# Altium schematic symbol library HW_ADHERENT_SYSCTRL_R1_L2.SCHLIB: 1987 symbols (part 18 of 38)
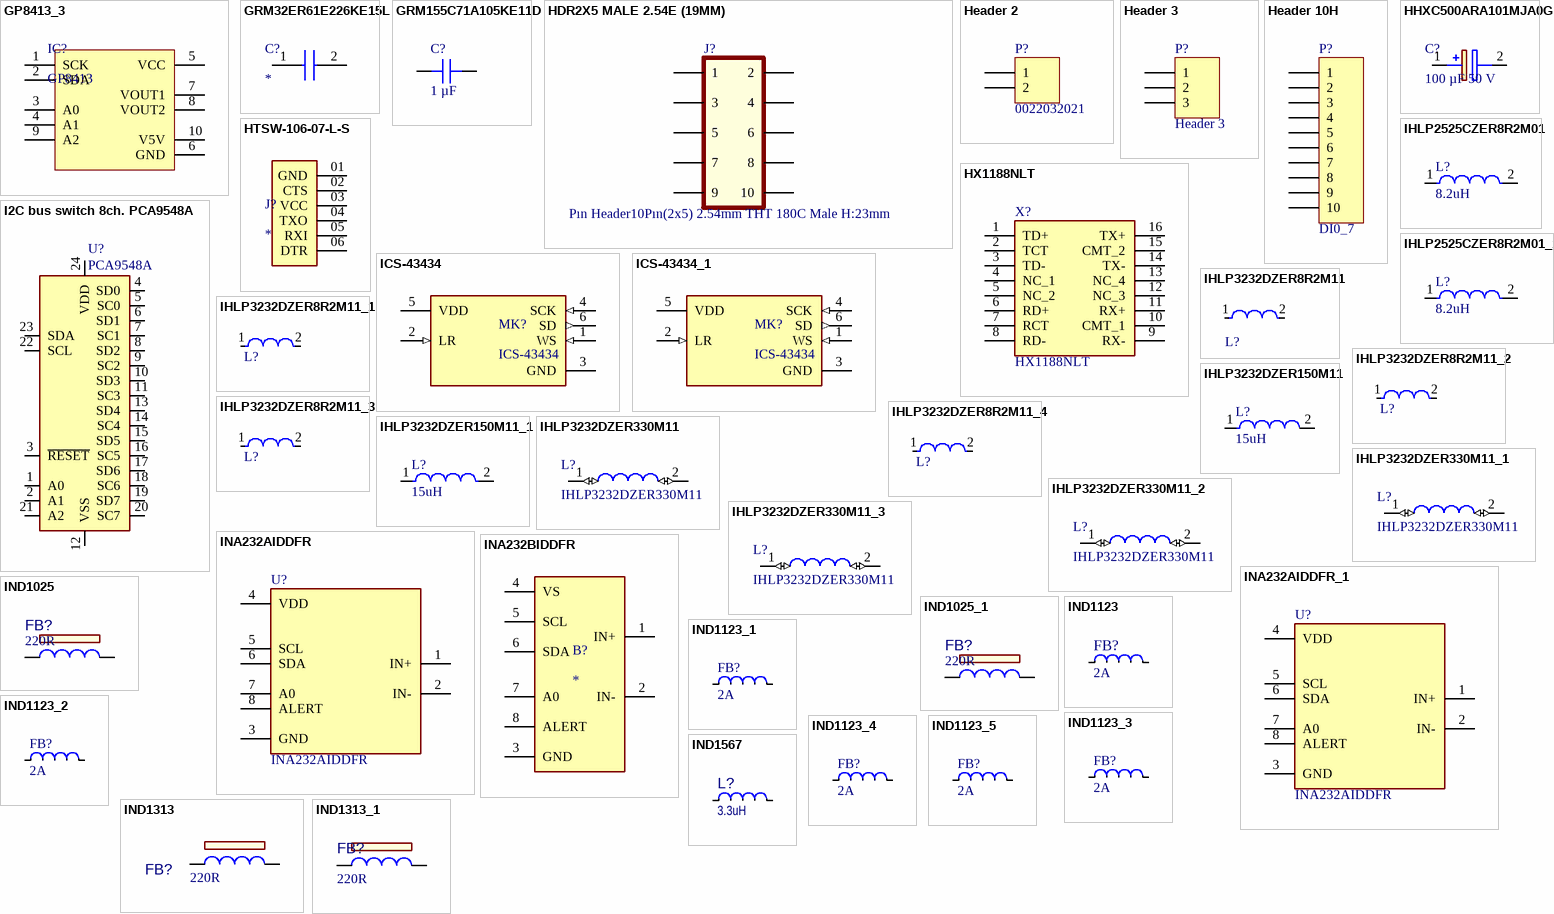
[diagram p79: symbols GP8413_3 to IND1567]

## IND1123_2
designator FB?, comment Current Rating: 2A  (hidden comment: Inductor)
FERRITE BEAD 100 OHM 0603 1LN; Manufacturer: TDK; Manufacturer Part Number: MPZ1608Y101BTA00; Tolerance: 25%; Impedance: 100R; DC Resistance (DCR): 40mR; ComponentLink1URL: https://chn-vm-apps.microchip.com/mchprepo/parts/Datasheets/beads_commercial_power_mpz_en.pdf; ComponentLink1Description: Datasheet; Supplier 1: Digi-Key; Supplier Part Number 1: 445-2984-1-ND; RoHS: Yes; Category: Ferrite Beads and Chips; Stock 1: 551; Pricing 1: 1=0,10000, 10=0,07200, 25=0,06480, 50=0,05840, 100=0,04290, 250=0,03120, 500=0,02860, 1000=0,02470 (USD); Mount: Surface Mount; Case/Package: 0603; Core Material: Ferrite; Case Code (Metric): 1608; Case Code (Imperial): 0603; Packaging: Tape and Reel; Package Quantity: 4000; Max DC Current: 2A; Series: MPZ; Length: 0.063inch; Width: 0.031inch; Height: 0.037inch; REACH SVHC: No SVHC; RoHS Compliant: Yes; ComponentLink2URL: https://datasheet.ciiva.com/46634/beads-commercial-power-mpz-en-46634677.pdf?src-supplier=Digi-Key; ComponentLink2Description: https://datasheet.ciiva.com/46634/beads-commercial-power-mpz-en-46634677.pdf?src-supplier=Digi-Key; ComponentLink3URL: https://datasheet.ciiva.com/48682/beads-commercial-power-mpz-en-48682501.pdf?src-supplier=Avnet; ComponentLink3Description: https://datasheet.ciiva.com/48682/beads-commercial-power-mpz-en-48682501.pdf?src-supplier=Avnet; ComponentLink4URL: https://datasheet.ciiva.com/46634/beads-commercial-power-mpz-en-46634684.pdf?src-supplier=Digi-Key; ComponentLink4Description: https://datasheet.ciiva.com/46634/beads-commercial-power-mpz-en-46634684.pdf?src-supplier=Digi-Key; ComponentLink5URL: https://datasheet.ciiva.com/46634/beads-commercial-power-mpz-en-46634621.pdf?src-supplier=Digi-Key; ComponentLink5Description: https://datasheet.ciiva.com/46634/beads-commercial-power-mpz-en-46634621.pdf?src-supplier=Digi-Key
footprint IND_C_0603 (Chip Inductor 2-Leads, Body 1.6x0.8mm, IPC Medium Density)
pins: 1 S, 2 F
2 alternate drawings of the same symbol

## IND1123_3
designator FB?, comment Current Rating: 2A  (hidden comment: Inductor)
FERRITE BEAD 100 OHM 0603 1LN; Manufacturer: TDK; Manufacturer Part Number: MPZ1608Y101BTA00; Tolerance: 25%; Impedance: 100R; DC Resistance (DCR): 40mR; ComponentLink1URL: https://chn-vm-apps.microchip.com/mchprepo/parts/Datasheets/beads_commercial_power_mpz_en.pdf; ComponentLink1Description: Datasheet; Supplier 1: Digi-Key; Supplier Part Number 1: 445-2984-1-ND; RoHS: Yes; Category: Ferrite Beads and Chips; Stock 1: 551; Pricing 1: 1=0,10000, 10=0,07200, 25=0,06480, 50=0,05840, 100=0,04290, 250=0,03120, 500=0,02860, 1000=0,02470 (USD); Mount: Surface Mount; Case/Package: 0603; Core Material: Ferrite; Case Code (Metric): 1608; Case Code (Imperial): 0603; Packaging: Tape and Reel; Package Quantity: 4000; Max DC Current: 2A; Series: MPZ; Length: 0.063inch; Width: 0.031inch; Height: 0.037inch; REACH SVHC: No SVHC; RoHS Compliant: Yes; ComponentLink2URL: https://datasheet.ciiva.com/46634/beads-commercial-power-mpz-en-46634677.pdf?src-supplier=Digi-Key; ComponentLink2Description: https://datasheet.ciiva.com/46634/beads-commercial-power-mpz-en-46634677.pdf?src-supplier=Digi-Key; ComponentLink3URL: https://datasheet.ciiva.com/48682/beads-commercial-power-mpz-en-48682501.pdf?src-supplier=Avnet; ComponentLink3Description: https://datasheet.ciiva.com/48682/beads-commercial-power-mpz-en-48682501.pdf?src-supplier=Avnet; ComponentLink4URL: https://datasheet.ciiva.com/46634/beads-commercial-power-mpz-en-46634684.pdf?src-supplier=Digi-Key; ComponentLink4Description: https://datasheet.ciiva.com/46634/beads-commercial-power-mpz-en-46634684.pdf?src-supplier=Digi-Key; ComponentLink5URL: https://datasheet.ciiva.com/46634/beads-commercial-power-mpz-en-46634621.pdf?src-supplier=Digi-Key; ComponentLink5Description: https://datasheet.ciiva.com/46634/beads-commercial-power-mpz-en-46634621.pdf?src-supplier=Digi-Key
footprint IND_C_0603 (Chip Inductor 2-Leads, Body 1.6x0.8mm, IPC Medium Density)
pins: 1 S, 2 F
2 alternate drawings of the same symbol

## IND1123_4
designator FB?, comment Current Rating: 2A  (hidden comment: Inductor)
FERRITE BEAD 100 OHM 0603 1LN; Manufacturer: TDK; Manufacturer Part Number: MPZ1608Y101BTA00; Tolerance: 25%; Impedance: 100R; DC Resistance (DCR): 40mR; ComponentLink1URL: https://chn-vm-apps.microchip.com/mchprepo/parts/Datasheets/beads_commercial_power_mpz_en.pdf; ComponentLink1Description: Datasheet; Supplier 1: Digi-Key; Supplier Part Number 1: 445-2984-1-ND; RoHS: Yes; Category: Ferrite Beads and Chips; Stock 1: 551; Pricing 1: 1=0,10000, 10=0,07200, 25=0,06480, 50=0,05840, 100=0,04290, 250=0,03120, 500=0,02860, 1000=0,02470 (USD); Mount: Surface Mount; Case/Package: 0603; Core Material: Ferrite; Case Code (Metric): 1608; Case Code (Imperial): 0603; Packaging: Tape and Reel; Package Quantity: 4000; Max DC Current: 2A; Series: MPZ; Length: 0.063inch; Width: 0.031inch; Height: 0.037inch; REACH SVHC: No SVHC; RoHS Compliant: Yes; ComponentLink2URL: https://datasheet.ciiva.com/46634/beads-commercial-power-mpz-en-46634677.pdf?src-supplier=Digi-Key; ComponentLink2Description: https://datasheet.ciiva.com/46634/beads-commercial-power-mpz-en-46634677.pdf?src-supplier=Digi-Key; ComponentLink3URL: https://datasheet.ciiva.com/48682/beads-commercial-power-mpz-en-48682501.pdf?src-supplier=Avnet; ComponentLink3Description: https://datasheet.ciiva.com/48682/beads-commercial-power-mpz-en-48682501.pdf?src-supplier=Avnet; ComponentLink4URL: https://datasheet.ciiva.com/46634/beads-commercial-power-mpz-en-46634684.pdf?src-supplier=Digi-Key; ComponentLink4Description: https://datasheet.ciiva.com/46634/beads-commercial-power-mpz-en-46634684.pdf?src-supplier=Digi-Key; ComponentLink5URL: https://datasheet.ciiva.com/46634/beads-commercial-power-mpz-en-46634621.pdf?src-supplier=Digi-Key; ComponentLink5Description: https://datasheet.ciiva.com/46634/beads-commercial-power-mpz-en-46634621.pdf?src-supplier=Digi-Key
footprint IND_C_0603 (Chip Inductor 2-Leads, Body 1.6x0.8mm, IPC Medium Density)
pins: 1 S, 2 F
2 alternate drawings of the same symbol

## IND1123_5
designator FB?, comment Current Rating: 2A  (hidden comment: Inductor)
FERRITE BEAD 100 OHM 0603 1LN; Manufacturer: TDK; Manufacturer Part Number: MPZ1608Y101BTA00; Tolerance: 25%; Impedance: 100R; DC Resistance (DCR): 40mR; ComponentLink1URL: https://chn-vm-apps.microchip.com/mchprepo/parts/Datasheets/beads_commercial_power_mpz_en.pdf; ComponentLink1Description: Datasheet; Supplier 1: Digi-Key; Supplier Part Number 1: 445-2984-1-ND; RoHS: Yes; Category: Ferrite Beads and Chips; Stock 1: 551; Pricing 1: 1=0,10000, 10=0,07200, 25=0,06480, 50=0,05840, 100=0,04290, 250=0,03120, 500=0,02860, 1000=0,02470 (USD); Mount: Surface Mount; Case/Package: 0603; Core Material: Ferrite; Case Code (Metric): 1608; Case Code (Imperial): 0603; Packaging: Tape and Reel; Package Quantity: 4000; Max DC Current: 2A; Series: MPZ; Length: 0.063inch; Width: 0.031inch; Height: 0.037inch; REACH SVHC: No SVHC; RoHS Compliant: Yes; ComponentLink2URL: https://datasheet.ciiva.com/46634/beads-commercial-power-mpz-en-46634677.pdf?src-supplier=Digi-Key; ComponentLink2Description: https://datasheet.ciiva.com/46634/beads-commercial-power-mpz-en-46634677.pdf?src-supplier=Digi-Key; ComponentLink3URL: https://datasheet.ciiva.com/48682/beads-commercial-power-mpz-en-48682501.pdf?src-supplier=Avnet; ComponentLink3Description: https://datasheet.ciiva.com/48682/beads-commercial-power-mpz-en-48682501.pdf?src-supplier=Avnet; ComponentLink4URL: https://datasheet.ciiva.com/46634/beads-commercial-power-mpz-en-46634684.pdf?src-supplier=Digi-Key; ComponentLink4Description: https://datasheet.ciiva.com/46634/beads-commercial-power-mpz-en-46634684.pdf?src-supplier=Digi-Key; ComponentLink5URL: https://datasheet.ciiva.com/46634/beads-commercial-power-mpz-en-46634621.pdf?src-supplier=Digi-Key; ComponentLink5Description: https://datasheet.ciiva.com/46634/beads-commercial-power-mpz-en-46634621.pdf?src-supplier=Digi-Key
footprint IND_C_0603 (Chip Inductor 2-Leads, Body 1.6x0.8mm, IPC Medium Density)
pins: 1 S, 2 F
2 alternate drawings of the same symbol

## IND1313
designator FB?, comment value 220R  (hidden comment: Ferrite Bead)
FERRITE BEAD 220 OHM 0603 1LN; Manufacturer: Murata; Manufacturer Part Number: BLM18AG221SN1D; Revision: A; Supplier Part Number: 490-1012-1-ND
footprint 0603_L (R0603)
pins: 1, 2
2 alternate drawings of the same symbol

## IND1313_1
designator FB?, comment value 220R  (hidden comment: Ferrite Bead)
FERRITE BEAD 220 OHM 0603 1LN; Manufacturer: Murata Electronics North America; Manufacturer Part Number: BLM18EG221SN1D; Revision: A; Supplier Part Number: 490-3992-6-ND
footprint 0603_L (R0603)
pins: 1, 2
2 alternate drawings of the same symbol

## IND1567
designator L?, comment 3.3uH
FIXED IND 3.3UH 2.63A 150MOHM SM; Manufacturer: TDK Corporation; Manufacturer Part Number: VLS3012HBX-3R3M; Value: 3.3uH; Revision: A; Supplier Part Number: 445-175070-1-ND
footprint SMD IND 3.0X3.0X1.2MM (VLS3012HBX-3R3M)
pins: 1 S, 2 F
2 alternate drawings of the same symbol

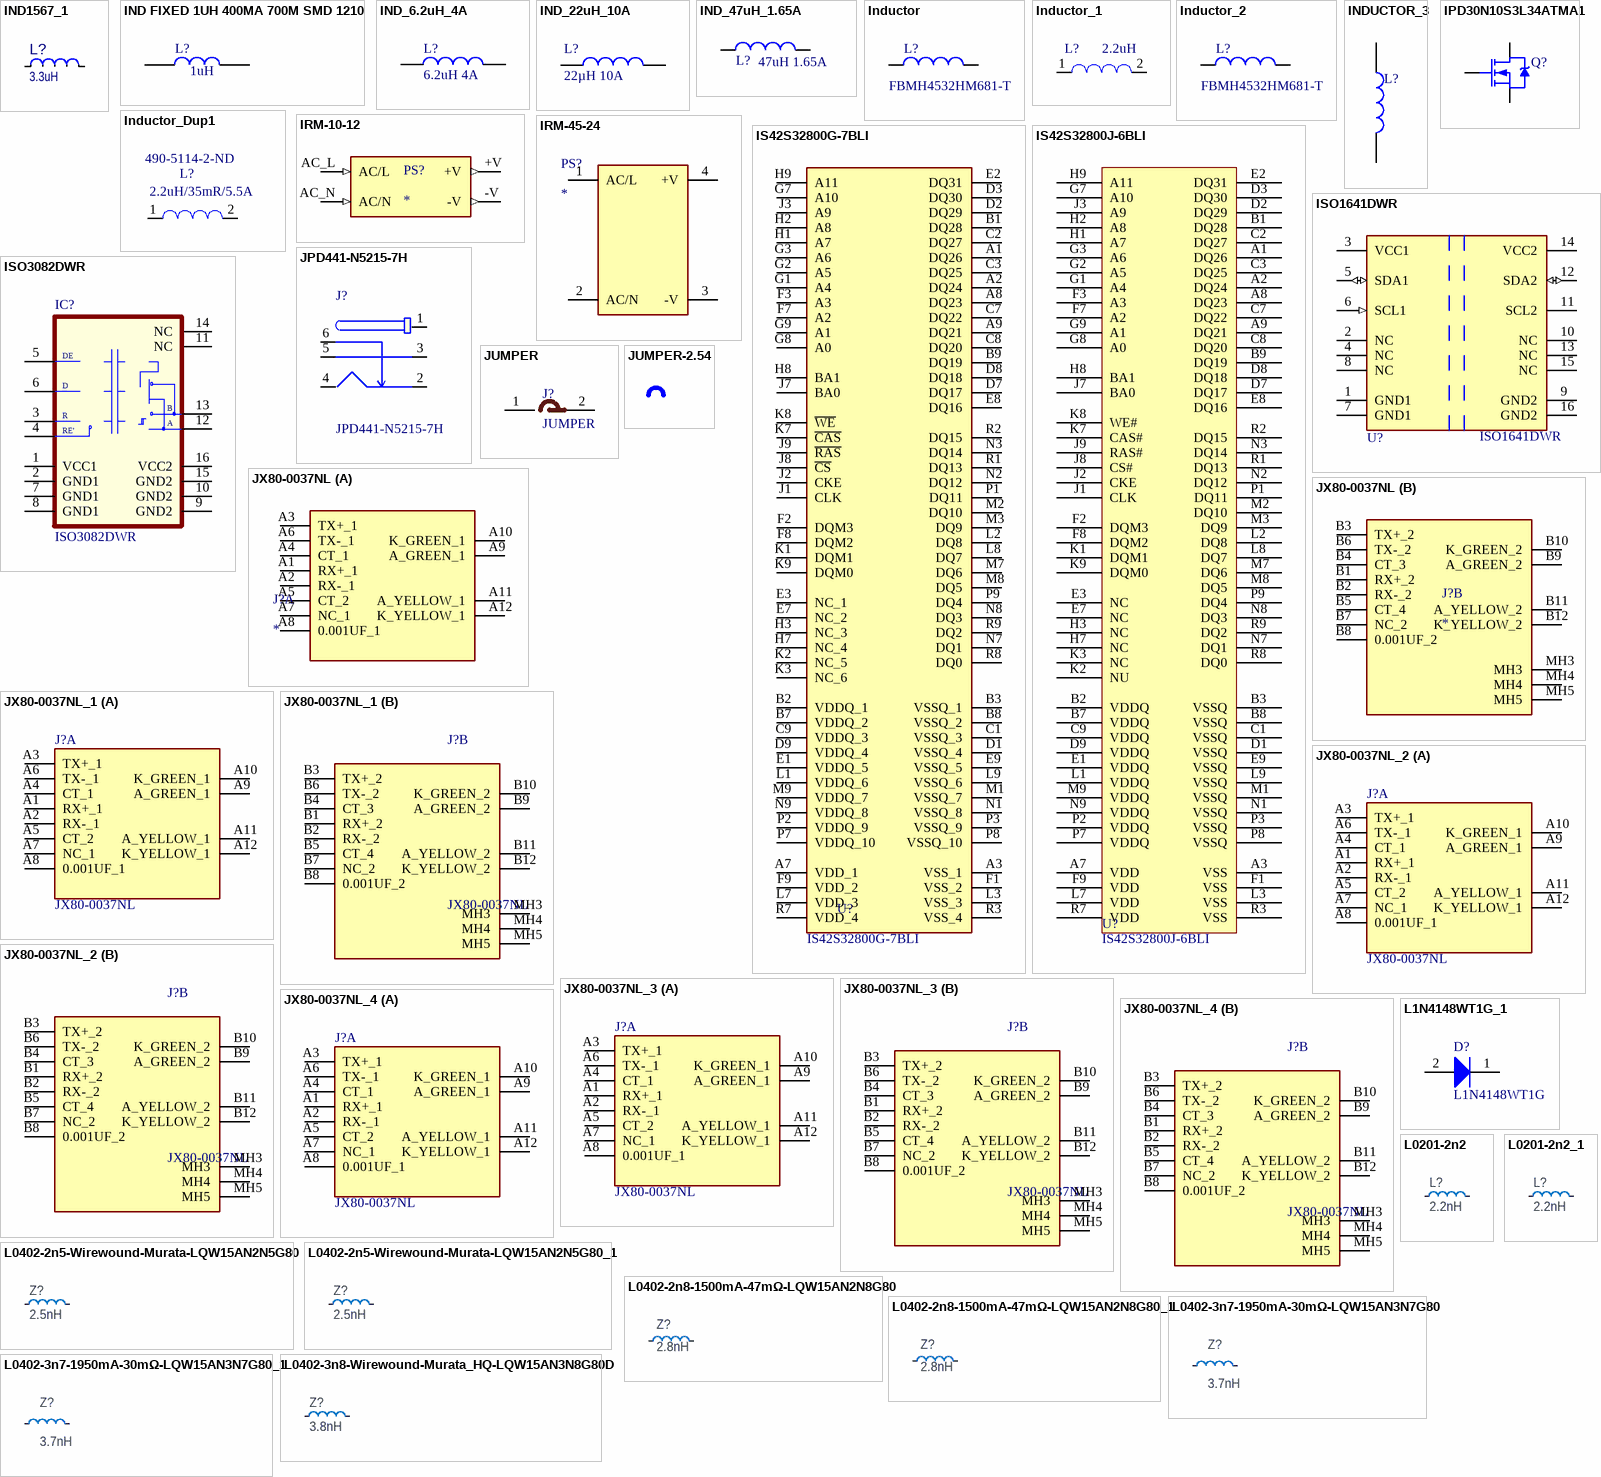
[diagram p31: symbols IND1567_1 to L0402-3n8-Wirewound-Murata_HQ-LQW15AN3N8G80D]

## IND1567_1
designator L?, comment 3.3uH
FIXED IND 3.3UH 2.63A 150MOHM SM; Manufacturer: TDK Corporation; Manufacturer Part Number: VLS3012HBX-3R3M; Value: 3.3uH; Revision: A; Supplier Part Number: 445-175070-1-ND
footprint SMD IND 3.0X3.0X1.2MM (VLS3012HBX-3R3M)
pins: 1 S, 2 F
2 alternate drawings of the same symbol

## IND FIXED 1UH 400MA 700M SMD 1210
designator L?, comment 1uH
SIGNAL LINE IND, 1UH,400MA,5%,120MHz, FULL REEL; Product Range:NLV Series; Inductance:1 H; Inductance Tolerance: 5%; High Frequency Inductor Case:1210 [3225 Metric]; Self Resonant Frequency Min:120MHz; DC Resistance Max:0.7ohm ;RoHS Compliant: Yes; Manufacturer: TDK; Manufacturer Part Number: NLV32T-1R0J-PF; Core Material: Ferrite; DC Resistance (DCR): 700mR; Shielding: Unshielded; Test Frequency: 7.96MHz; Q Factor: 30; Supplier 1: Digi-Key; Supplier Part Number 1: 445-1517-1-ND; RoHS: Yes; Category: Fixed Inductors; Stock 1: 174; Pricing 1: 1=0,25000, 10=0,22600, 25=0,19800, 50=0,16980, 100=0,15560, 250=0,14148, 500=0,13300, 1000=0,10187 (USD); Mount: Surface Mount; Case/Package: 1210; Number of Pins: 2; Case Code (Metric): 3225; Case Code (Imperial): 1210; Min Operating Temperature: -40°C; Max Operating Temperature: 105°C; Tolerance: 5%; Inductance: 1uH; Packaging: Tape and Reel; Self Resonant Frequency: 120MHz; Current Rating: 400mA; Max DC Current: 400mA; Package Quantity: 2000; Termination: SMD/SMT; DC Current: 400mA; Series: NLV; Rated Current-Max: 400mA; Length: 3.2mm; Width: 0.079inch; Height: 2.2mm; Depth: 2.7mm; Radiation Hardening: No; RoHS Compliant: Yes; REACH SVHC: No SVHC; Military Standard: Not; Lead Free: Lead Free; ComponentLink1URL: https://datasheet.ciiva.com/36526/1871633-36526065.pdf?src-supplier=Jameco; ComponentLink1Description: https://datasheet.ciiva.com/36526/1871633-36526065.pdf?src-supplier=Jameco; ComponentLink2URL: https://datasheet.ciiva.com/11802/0900766b80814a78-11802198.pdf?src-supplier=RSComponents; ComponentLink2Description: https://datasheet.ciiva.com/11802/0900766b80814a78-11802198.pdf?src-supplier=RSComponents; ComponentLink3URL: https://datasheet.ciiva.com/15160/getdatasheetpartid-127957-15160442.pdf?src-supplier=Verical; ComponentLink3Description: https://datasheet.ciiva.com/15160/getdatasheetpartid-127957-15160442.pdf?src-supplier=Verical; ComponentLink4URL: https://datasheet.ciiva.com/3082/e511-nl-3082240.pdf?src-supplier=Avnet; ComponentLink4Description: https://datasheet.ciiva.com/3082/e511-nl-3082240.pdf?src-supplier=Avnet; ComponentLink5URL: https://datasheet.ciiva.com/28479/1929012-28479734.pdf?src-supplier=Element14; ComponentLink5Description: https://datasheet.ciiva.com/28479/1929012-28479734.pdf?src-supplier=Element14; ComponentLink6URL: https://datasheet.ciiva.com/1042/e511-nl-1042327.pdf?src-supplier=Digi-Key; ComponentLink6Description: https://datasheet.ciiva.com/1042/e511-nl-1042327.pdf?src-supplier=Digi-Key; ComponentLink7URL: https://datasheet.ciiva.com/1042/e511-nl-1042328.pdf?src-supplier=Digi-Key; ComponentLink7Description: https://datasheet.ciiva.com/1042/e511-nl-1042328.pdf?src-supplier=Digi-Key; ComponentLink8URL: https://datasheet.ciiva.com/1042/e511-nl-1042329.pdf?src-supplier=Digi-Key; ComponentLink8Description: https://datasheet.ciiva.com/1042/e511-nl-1042329.pdf?src-supplier=Digi-Key; ComponentLink9URL: https://datasheet.ciiva.com/16209/inductor-commercial-standard-nlv-en-16209578.pdf?src-supplier=Future+Electronics; ComponentLink9Description: https://datasheet.ciiva.com/16209/inductor-commercial-standard-nlv-en-16209578.pdf?src-supplier=Future+Electronics; ComponentLink10URL: https://datasheet.ciiva.com/30155/print-detail-pdf-phplangenpart-nonlv32t-1r0j-pfnreimp-unit-xmhzim-30155739.pdf?src-supplier=Onlinecomponents.com; ComponentLink10Description: https://datasheet.ciiva.com/30155/print-detail-pdf-phplangenpart-nonlv32t-1r0j-pfnreimp-unit-xmhzim-30155739.pdf?src-supplier=Onlinecomponents.com; ComponentLink11URL: https://datasheet.ciiva.com/46385/e511-nl-46385197.pdf?src-supplier=Element14; ComponentLink11Description: https://datasheet.ciiva.com/46385/e511-nl-46385197.pdf?src-supplier=Element14; ComponentLink12URL: https://datasheet.ciiva.com/8045/73621-8045615.pdf?src-supplier=Element14; ComponentLink12Description: https://datasheet.ciiva.com/8045/73621-8045615.pdf?src-supplier=Element14
footprint F1210N (Chip Inductor, Body 3.2x2.5mm, IPC Medium Density)
pins: 1, 2

## IND_6.2uH_4A
designator L?, comment 6.2uH 4A
6.2 µH Shielded Drum Core, Wirewound Inductor 4 A 16.5mOhm Nonstandard; Manufacturer_Name: Bourns; Manufacturer Part Number: SRU1038-6R2Y; Geometry.Height: 6.1mm; Mouser Part Number: 652-SRU1038-6R2Y; Mouser Price/Stock: https://www.mouser.co.uk/ProductDetail/Bourns/SRU1038-6R2Y?qs=q9ZR8LvBB%2FuBaClm0822pQ%3D%3D; Arrow Part Number: SRU1038-6R2Y; Arrow Price/Stock: https://www.arrow.com/en/products/sru1038-6r2y/bourns; Datasheet Link: https://www.mouser.com/datasheet/2/54/sru1038-1391493.pdf
footprint SRU10386R2Y
pins: 1, 2

## IND_22uH_10A
designator L?, comment 22µH 10A
WE-HIDA THT High Current Inductor, size 3119, 22µH, 10A; Manufacturer: Wurth Elektronik; Manufacturer Part Number: 7444013119220; Inductance Tolerance: +/-20%; Self Resonant Frequency: 9MHz; Saturation Current: 33A; Case/Size Code: 3119; DC Resistance: 5.3mΩ; Category: Inductors for Digital Audio; Mount: Through Hole; Inductance: 22µH; Packaging: Tray; Length: 31mm; Width: 19mm; Height: 35mm; ComponentLink1URL: https://www.we-online.com/redexpert/article/7444013119220?ad; ComponentLink1Description: Website Link; ComponentLink2URL: https://www.we-online.com/redexpert/spec/7444013119220?ad; ComponentLink2Description: Datasheet Link; Match Code: WE-HIDA; Operating Temperature Max: 125°C; Operating Temperature Min: -40°C; Rated Current: 10A
footprint WE-HIDA_3119_7444013119220 (THT High Current Inductor, body 31x19mm)
pins: 1, 2

## IND_47uH_1.65A
designator L?, comment Rated: 47uH 1.65A  (hidden comment: FIXED IND 47UH 1.65A 121MOHM SMD)
47 µH Shielded Drum Core, Wirewound Inductor 1.65 A 121mOhm Nonstandard; Manufacturer Part Number: SRU1038-470Y
footprint Bourns_SRU1038_MFG
pins: 1, 2

## Inductor
designator L?, comment FBMH4532HM681-T
FERRITE BEAD 680 OHM 1812 1LN; Manufacturer: Taiyo Yuden; Value: FBMH4532HM681-T; Manufacturer Part Number: FBMH4532HM681-T; Supplier Part Number: 587-1761-1-ND
simulation model INDUCTOR (Inductor)
signal-integrity model Inductor
footprint FB_FBMH4532HM681-T (FBMH4532HM681-T)
pins: 1, 2

## Inductor_1
designator L?, comment 2.2uH
Power Inductor,2.2uH,+/-20,SPH,3.0*3.0*1.2mm,SMD,Sunlord; Manufacturer P/N: SPH3012H2R2MT; PCB Footprint: L3X3; Myir P/N: 20501.00034; Part Type: Power Inductor; Manufacturer: Sunlord; Reserve Value: 2.2uH; Datasheet: SPH series of SMD Power Inductor.pdf
footprint VLCF5020T
footprint L3X3
pins: 1, 2

## Inductor_2
designator L?, comment FBMH4532HM681-T
FERRITE BEAD 680 OHM 1812 1LN; Manufacturer: Taiyo Yuden; Value: FBMH4532HM681-T; Manufacturer Part Number: FBMH4532HM681-T; Supplier Part Number: 587-1761-1-ND
simulation model INDUCTOR (Inductor)
signal-integrity model Inductor
footprint FB_FBMH4532HM681-T (FBMH4532HM681-T)
pins: 1, 2

## INDUCTOR_3
designator L?
footprint ISENSOR_1
pins: 1, 2

## Inductor_Dup1
designator L?, comment 2.2uH/35mR/5.5A  Supplier Part Number 1: 490-5114-2-ND
Inductor Power Chip Shielded Multi-Layer 2.2uH 20% 1MHz Ferrite 1.3A 100mOhm DCR 1008 T/R; RP1 Manufacturer P/N: MWSA0503S-2R2MT; Manufacturer P/N: MPH0530-2R2M; Manufacturer: Vcoil; Manufacturer Part Number: LQM2HPN2R2MG0L; RP1 Myir P/N: 20501.00040; Myir P/N: 20501.00020; PCB Footprint: l5_2x5_5; Self Resonant Frequency: 40MHz; DC Resistance (DCR): 80mR; Series Resistance: 100mR; Voltage Rating: 50V; Datasheet: MPH-Inductor.pdf; Reserve Value: 2.2uH; Part Type: Power Inductor; Supplier 1: Digikey; RoHS: Yes; Category: Fixed Inductors; Stock 1: 123000; Pricing 1: 3000=0.08405, 6000=0.08142, 15000=0.07879, 30000=0.07617, 75000=0.07354 (USD); Mount: Surface Mount; Case/Package: 1008; Number of Pins: 2NUMBER; Core Material: Ferrite; Case Code (Metric): 2520; Case Code (Imperial): 1008; Min Operating Temperature: -55°C; Max Operating Temperature: 125°C; Packaging: Tape and Reel; Shielding: Shielded; Tolerance: 20%; Package Quantity: 1; Current Rating: 1.3A; Inductance: 2.2uH; Max DC Current: 1.3A; Termination: SMD/SMT; Test Frequency: 1MHz; DC Current: 1.3A; Inductance Tolerance: 20%; Series: LQM2HP_G0; RMS Current (Irms): 1.3A; Voltage Rating (DC): 50V; Length: 2.5mm; Width: 0.079inch; Height: 1.2mm; Height - Seated (Max): 0.039inch; Depth: 2.2mm; Lead Pitch: 5mm; Radiation Hardening: No; Military Standard: Not; Reach SVHC Compliant: No; RoHS Compliant: Yes; Lead Free: 5697LeadFree; ComponentLink1URL: https://datasheet.ciiva.com/30490/0900766b812561d9-30490188.pdf?src-supplier=Rs; ComponentLink1Description: https://datasheet.ciiva.com/30490/0900766b812561d9-30490188.pdf?src-supplier=Rs; ComponentLink2URL: https://datasheet.ciiva.com/18089/getdatasheetpartid-153082-18089633.pdf?src-supplier=Verical; ComponentLink2Description: https://datasheet.ciiva.com/18089/getdatasheetpartid-153082-18089633.pdf?src-supplier=Verical; ComponentLink3URL: https://datasheet.ciiva.com/1042/l0075s0104lqm2hp-g0-1042920.pdf?src-supplier=Digikey; ComponentLink3Description: https://datasheet.ciiva.com/1042/l0075s0104lqm2hp-g0-1042920.pdf?src-supplier=Digikey; ComponentLink4URL: https://datasheet.ciiva.com/1042/l0075s0104lqm2hp-g0-1042919.pdf?src-supplier=Digikey; ComponentLink4Description: https://datasheet.ciiva.com/1042/l0075s0104lqm2hp-g0-1042919.pdf?src-supplier=Digikey; ComponentLink5URL: https://datasheet.ciiva.com/1042/l0075s0104lqm2hp-g0-1042921.pdf?src-supplier=Digikey; ComponentLink5Description: https://datasheet.ciiva.com/1042/l0075s0104lqm2hp-g0-1042921.pdf?src-supplier=Digikey; ComponentLink6URL: https://datasheet.ciiva.com/4959/product-4959558.pdf?src-supplier=Mouser; ComponentLink6Description: https://datasheet.ciiva.com/4959/product-4959558.pdf?src-supplier=Mouser; ComponentLink7URL: https://datasheet.ciiva.com/8510/l0075s0104lqm2hp-g0-8510494.pdf?src-supplier=Avnet; ComponentLink7Description: https://datasheet.ciiva.com/8510/l0075s0104lqm2hp-g0-8510494.pdf?src-supplier=Avnet
footprint VLCF5020T
footprint l5_2x5_5
pins: 1, 2

## IPD30N10S3L34ATMA1
designator Q?, comment MOSFET N-CH 100V 30A TO252-3  (value not drawn)
N-Channel 100 V 30A (Tc) 57W (Tc) Surface Mount PG-TO252-3-11; Manufacturer Part Number: IPD30N10S3L34ATMA1; Value: N-Channel 100 V 30A (Tc) 57W (Tc) Surface Mount PG-TO252-3-11
footprint TO-252_L6.5-W6.1-P4.58-LS9.9-BR
pins: 1 G, 2 D, 3 S

## IRM-10-12
designator PS?
Power Supply,AC-DC,12V,0.85A,100-264V In,Encapsulated,Thru-Hole,IRM Series | MEAN WELL IRM-10-12; SnapEDA_Link: https://www.snapeda.com/parts/IRM-10-12/Mean+Well/view-part/?ref=snap; Package: None; Value: *; MF: MEAN WELL; MP: IRM-10-12; Check_prices: https://www.snapeda.com/parts/IRM-10-12/Mean+Well/view-part/?ref=eda
footprint CONV_IRM-10-12
pins: +V (out), -V (out), AC_L AC/L (in), AC_N AC/N (in)

## IRM-45-24
designator PS?
Power Supply; Manufacturer_Name: Mean Well; Manufacturer_Part_Number: IRM-45-24; Datasheet Link: http://www.meanwell.com/webapp/product/search.aspx?prod=IRM-45; Mouser Part Number: 709-IRM45-24; Mouser Price/Stock: https://www.mouser.co.uk/ProductDetail/MEAN-WELL/IRM-45-24?qs=yID0DEbBT%252BnXaXs%252BF7qwwg%3D%3D; Arrow Part Number: IRM-45-24; Arrow Price/Stock: https://www.arrow.com/en/products/irm-45-24/mean-well-enterprises?region=europe
footprint IRM-45-48
pins: 1 AC/L, 2 AC/N, 3 -V, 4 +V

## IS42S32800G-7BLI
designator U?, comment Manufacturer Part Number: IS42S32800G-7BLI  (hidden comment: IC DRAM 256MBIT PAR 90TFBGA)
SDRAM Memory IC 256Mbit Parallel 143 MHz 5.4 ns 90-TFBGA (8x13); Manufacturer Name: Integrated Silicon Solution Inc.; Order Code: Mouser: 870-IS42S32800G-7BLI; Datasheet Link: https://componentsearchengine.com/Datasheets/1/IS42S32800G-6BLI.pdf; Height: 1.2mm
footprint TFBGA-90
pins: A1 DQ26, A2 DQ24, A3 VSS_1, A7 VDD_1, A8 DQ23, A9 DQ21, B1 DQ28, B2 VDDQ_1, B3 VSSQ_1, B7 VDDQ_2, B8 VSSQ_2, B9 DQ19, C1 VSSQ_3, C2 DQ27, C3 DQ25, C7 DQ22, C8 DQ20, C9 VDDQ_3, D1 VSSQ_4, D2 DQ29, D3 DQ30, D7 DQ17, D8 DQ18, D9 VDDQ_4, E1 VDDQ_5, E2 DQ31, E3 NC_1, E7 NC_2, E8 DQ16, E9 VSSQ_5, F1 VSS_2, F2 DQM3, F3 A3, F7 A2, F8 DQM2, F9 VDD_2, G1 A4, G2 A5, G3 A6, G7 A10, G8 A0, G9 A1, H1 A7, H2 A8, H3 NC_3, H7 NC_4, H8 BA1, H9 A11, J1 CLK, J2 CKE, J3 A9, J7 BA0, J8 ~{CS}, J9 ~{RAS}, K1 DQM1, K2 NC_5, K3 NC_6, K7 ~{CAS}, K8 ~{WE}, K9 DQM0, L1 VDDQ_6, L2 DQ8, L3 VSS_3, L7 VDD_3, L8 DQ7, L9 VSSQ_6, M1 VSSQ_7, M2 DQ10, M3 DQ9, M7 DQ6, M8 DQ5, M9 VDDQ_7, N1 VSSQ_8, N2 DQ12, N3 DQ14, N7 DQ1, N8 DQ3, N9 VDDQ_8, P1 DQ11, P2 VDDQ_9, P3 VSSQ_9, P7 VDDQ_10, P8 VSSQ_10, P9 DQ4, R1 DQ13, R2 DQ15, R3 VSS_4, R7 VDD_4, R8 DQ0, R9 DQ2

## IS42S32800J-6BLI
designator U?
SDRAM Memory IC 256Mbit Parallel 166 MHz 5.4 ns 90-TFBGA (8x13); Order Code: DIGI: 706-1451-ND; Manufacturer Part Number: IS42S32800J-6BLI
footprint TFBGA-90
pins: A1 DQ26, A2 DQ24, A3 VSS, A7 VDD, A8 DQ23, A9 DQ21, B1 DQ28, B2 VDDQ, B3 VSSQ, B7 VDDQ, B8 VSSQ, B9 DQ19, C1 VSSQ, C2 DQ27, C3 DQ25, C7 DQ22, C8 DQ20, C9 VDDQ, D1 VSSQ, D2 DQ29, D3 DQ30, D7 DQ17, D8 DQ18, D9 VDDQ, E1 VDDQ, E2 DQ31, E3 NC, E7 NC, E8 DQ16, E9 VSSQ, F1 VSS, F2 DQM3, F3 A3, F7 A2, F8 DQM2, F9 VDD, G1 A4, G2 A5, G3 A6, G7 A10, G8 A0, G9 A1, H1 A7, H2 A8, H3 NC, H7 NC, H8 BA1, H9 A11, J1 CLK, J2 CKE, J3 A9, J7 BA0, J8 CS#, J9 RAS#, K1 DQM1, K2 NU, K3 NC, K7 CAS#, K8 WE#, K9 DQM0, L1 VDDQ, L2 DQ8, L3 VSS, L7 VDD, L8 DQ7, L9 VSSQ, M1 VSSQ, M2 DQ10, M3 DQ9, M7 DQ6, M8 DQ5, M9 VDDQ, N1 VSSQ, N2 DQ12, N3 DQ14, N7 DQ1, N8 DQ3, N9 VDDQ, P1 DQ11, P2 VDDQ, P3 VSSQ, P7 VDDQ, P8 VSSQ, P9 DQ4, R1 DQ13, R2 DQ15, R3 VSS, R7 VDD, R8 DQ0, R9 DQ2

## ISO1641DWR
designator U?
I²C Digital Isolator 5000Vrms 2 Channel 50kV/µs CMTI 16-SOIC (0.295", 7.50mm Width); Manufacturer: Texas Instruments; Manufacturer Part Number: ISO1641DWR
footprint Texas_Instruments_DW0016A_IPC_B
pins: 1 GND1 (power), 2 NC, 3 VCC1 (power), 4 NC, 5 SDA1 (io), 6 SCL1 (in), 7 GND1 (power), 8 NC, 9 GND2 (power), 10 NC, 11 SCL2, 12 SDA2 (io), 13 NC, 14 VCC2 (power), 15 NC, 16 GND2 (power)

## ISO3082DWR
designator IC?
IC TXRX ISO ISO3082DWR RS422/485 2.5KV 3CH 200KBPS 16SOIC; Manufacturer: TEXAS; Code: 3000004; Family: IC; Manufacturer Part Name: ISO3082DWR; Supplier: Digikey; Supplier No: 296-37891-6-ND; Package Reference: 16-SOIC; Value: ISO3082DWR
footprint SOIC127P1030-16N (SOIC, 16-Leads, Body 10.3x7.5mm, Pitch 1.27mm, IPC Medium Density)
footprint Model Name (Footprint not found)
pins: 1 VCC1 (power), 2 GND1 (power), 3 R, 4 ~{RE}, 5 DE, 6 D, 7 GND1 (power), 8 GND1 (power), 9 GND2 (power), 10 GND2 (power), 11 NC, 12 A, 13 B, 14 NC, 15 GND2 (power), 16 VCC2 (power)
text: RE'

## JPD441-N5215-7H
designator J?
Connector,DC Jack,Male,Right angle,7A &30¡ãC,Foxconn; Myir P/N: 21115.00002; PCB Footprint: JPD441-N5215-7H; Part Type: DC Connector; Manufacturer: Foxconn; Manufacturer P/N: JPD441-N5215-7H; Reserve Value: JPD441-N5215-7H; Datasheet: DC_JACK_Foxconn_JPD441-N5215-7H.pdf
footprint JPD441-N5215-7H
pins: 1, 2, 3, 4, 5, 6

## JUMPER
designator J?
footprint SB-tiny
pins: 1, 2

## JUMPER-2.54
designator Z?, comment Jumper Pitch 2.54  (value not drawn)
Jumper,2 Points Jumper Pitch 2.54; Manufacturer Part Number: G4160-1A60BF1U; Manufacturer: WIESON; Part Number: 440-00002-1; FAB: NA; REF: JUMPER 2.54; PCB Footprint: JUMPER-2.54; DESIG: 2 POINTS JUMPER PITCH 2.54; VAL: JUMPER 2.54; BOI: NA; Part Type: Jumper
footprint JUMPER-2.54

## JX80-0037NL
designator J?
Connector; Manufacturer_Name: Pulse Electronics; Manufacturer_Part_Number: JX80-0037NL; Datasheet Link: https://componentsearchengine.com/Datasheets/1/JX80-0037NL.pdf; Height: 13.61mm; Mouser Part Number: 673-JX80-0037NL; Mouser Price/Stock: https://www.mouser.co.uk/ProductDetail/Pulse-Electronics/JX80-0037NL?qs=FESYatJ8odIT4jQ9naiDGw%3D%3D
footprint JX800037NL
part A pins: A1 RX+_1, A2 RX-_1, A3 TX+_1, A4 CT_1, A5 CT_2, A6 TX-_1, A7 NC_1, A8 0.001UF_1, A9 A_GREEN_1, A10 K_GREEN_1, A11 A_YELLOW_1, A12 K_YELLOW_1
part B pins: B1 RX+_2, B2 RX-_2, B3 TX+_2, B4 CT_3, B5 CT_4, B6 TX-_2, B7 NC_2, B8 0.001UF_2, B9 A_GREEN_2, B10 K_GREEN_2, B11 A_YELLOW_2, B12 K_YELLOW_2, MH3, MH4, MH5

## JX80-0037NL_1
designator J?, comment JX80-0037NL
Connector; Manufacturer_Name: Pulse Electronics; Datasheet Link: https://componentsearchengine.com/Datasheets/1/JX80-0037NL.pdf; Height: 13.61mm; Manufacturer_Part_Number: JX80-0037NL; Mouser Part Number: 673-JX80-0037NL; Mouser Price/Stock: https://www.mouser.co.uk/ProductDetail/Pulse-Electronics/JX80-0037NL?qs=FESYatJ8odIT4jQ9naiDGw%3D%3D
footprint JX800037NL
part A pins: A1 RX+_1, A2 RX-_1, A3 TX+_1, A4 CT_1, A5 CT_2, A6 TX-_1, A7 NC_1, A8 0.001UF_1, A9 A_GREEN_1, A10 K_GREEN_1, A11 A_YELLOW_1, A12 K_YELLOW_1
part B pins: B1 RX+_2, B2 RX-_2, B3 TX+_2, B4 CT_3, B5 CT_4, B6 TX-_2, B7 NC_2, B8 0.001UF_2, B9 A_GREEN_2, B10 K_GREEN_2, B11 A_YELLOW_2, B12 K_YELLOW_2, MH3, MH4, MH5

## JX80-0037NL_2
designator J?, comment JX80-0037NL
Connector; Manufacturer_Name: Pulse Electronics; Datasheet Link: https://componentsearchengine.com/Datasheets/1/JX80-0037NL.pdf; Height: 13.61mm; Manufacturer_Part_Number: JX80-0037NL; Mouser Part Number: 673-JX80-0037NL; Mouser Price/Stock: https://www.mouser.co.uk/ProductDetail/Pulse-Electronics/JX80-0037NL?qs=FESYatJ8odIT4jQ9naiDGw%3D%3D
footprint JX800037NL
part A pins: A1 RX+_1, A2 RX-_1, A3 TX+_1, A4 CT_1, A5 CT_2, A6 TX-_1, A7 NC_1, A8 0.001UF_1, A9 A_GREEN_1, A10 K_GREEN_1, A11 A_YELLOW_1, A12 K_YELLOW_1
part B pins: B1 RX+_2, B2 RX-_2, B3 TX+_2, B4 CT_3, B5 CT_4, B6 TX-_2, B7 NC_2, B8 0.001UF_2, B9 A_GREEN_2, B10 K_GREEN_2, B11 A_YELLOW_2, B12 K_YELLOW_2, MH3, MH4, MH5

## JX80-0037NL_3
designator J?, comment JX80-0037NL
Connector; Manufacturer_Name: Pulse Electronics; Datasheet Link: https://componentsearchengine.com/Datasheets/1/JX80-0037NL.pdf; Height: 13.61mm; Manufacturer_Part_Number: JX80-0037NL; Mouser Part Number: 673-JX80-0037NL; Mouser Price/Stock: https://www.mouser.co.uk/ProductDetail/Pulse-Electronics/JX80-0037NL?qs=FESYatJ8odIT4jQ9naiDGw%3D%3D
footprint JX800037NL
part A pins: A1 RX+_1, A2 RX-_1, A3 TX+_1, A4 CT_1, A5 CT_2, A6 TX-_1, A7 NC_1, A8 0.001UF_1, A9 A_GREEN_1, A10 K_GREEN_1, A11 A_YELLOW_1, A12 K_YELLOW_1
part B pins: B1 RX+_2, B2 RX-_2, B3 TX+_2, B4 CT_3, B5 CT_4, B6 TX-_2, B7 NC_2, B8 0.001UF_2, B9 A_GREEN_2, B10 K_GREEN_2, B11 A_YELLOW_2, B12 K_YELLOW_2, MH3, MH4, MH5

## JX80-0037NL_4
designator J?, comment JX80-0037NL
Connector; Manufacturer_Name: Pulse Electronics; Datasheet Link: https://componentsearchengine.com/Datasheets/1/JX80-0037NL.pdf; Height: 13.61mm; Manufacturer_Part_Number: JX80-0037NL; Mouser Part Number: 673-JX80-0037NL; Mouser Price/Stock: https://www.mouser.co.uk/ProductDetail/Pulse-Electronics/JX80-0037NL?qs=FESYatJ8odIT4jQ9naiDGw%3D%3D
footprint JX800037NL
part A pins: A1 RX+_1, A2 RX-_1, A3 TX+_1, A4 CT_1, A5 CT_2, A6 TX-_1, A7 NC_1, A8 0.001UF_1, A9 A_GREEN_1, A10 K_GREEN_1, A11 A_YELLOW_1, A12 K_YELLOW_1
part B pins: B1 RX+_2, B2 RX-_2, B3 TX+_2, B4 CT_3, B5 CT_4, B6 TX-_2, B7 NC_2, B8 0.001UF_2, B9 A_GREEN_2, B10 K_GREEN_2, B11 A_YELLOW_2, B12 K_YELLOW_2, MH3, MH4, MH5

## L1N4148WT1G_1
designator D?, comment Manufacturer Part Number: L1N4148WT1G  (hidden comment: 100V 425mW Single 1.25V 4ns 200mA SOD-123 Switching Diode ROHS)
Order Code: LCSC: C78089; LCSC Manufacturer Part Number: L1N4148WT1G; LCSC Part Number: C78089
footprint SOD-123_L2.8-W1.8-LS3.7-RD
pins: 1 K, 2 A

## L0201-2n2
designator L?, comment 2.2nH
Chip Inductor; Part Number: L0201-2n2; Part number NEMS: 100300017; Pad Count: 2; Artikkelnr Noca: N.A.; Note: High frequency chip inductor ±5%; Component Status: Active; Footprint Doc: 0201; Value: 2.2nH; Component Class: Inductors; Author: rsk; ComponentLink1Description: Datasheet; ComponentLink1URL: N.A.; ComponentLink2Description: Supplier link; ComponentLink2URL: N.A.; HelpURL: N.A.; LatestRevisionDate: 2013-04-10; Manufacturer: N.A.; Manufacturer Part Number: N.A.; PartId: 100300017; Part number IPS: N.A.; Part number Norautron: N.A.; Published: 2013-04-10; Supplier 1: N.A.; Supplier 2: N.A.; Supplier Part Number 1: N.A.; Supplier Part Number 2: N.A.
footprint INDC0603X03L_C
pins: 1, 2

## L0201-2n2_1
designator L?, comment 2.2nH
Chip Inductor; Part Number: L0201-2n2; Part number NEMS: 100300017; Pad Count: 2; Artikkelnr Noca: N.A.; Note: High frequency chip inductor ±5%; Component Status: Active; Footprint Doc: 0201; Value: 2.2nH; Component Class: Inductors; Author: rsk; ComponentLink1Description: Datasheet; ComponentLink1URL: N.A.; ComponentLink2Description: Supplier link; ComponentLink2URL: N.A.; HelpURL: N.A.; LatestRevisionDate: 2013-04-10; Manufacturer: N.A.; Manufacturer Part Number: N.A.; PartId: 100300017; Part number IPS: N.A.; Part number Norautron: N.A.; Published: 2013-04-10; Supplier 1: N.A.; Supplier 2: N.A.; Supplier Part Number 1: N.A.; Supplier Part Number 2: N.A.
footprint INDC0603X03L_C
pins: 1, 2

## L0402-2n5-Wirewound-Murata-LQW15AN2N5G80
designator Z?, comment 2.5nH
Inductor, 2100mA, ±2%, 30mΩ, Q=30; Part Number: L0402-2n5-Wirewound-Murata-LQW15AN2N5G80; Manufacturer: Murata; Manufacturer Part Number: LQW15AN2N5G80D; Part number NEMS: 100300417; Pad Count: 2; Note: -55°C ~ 125°C; Artikkelnr Noca: N.A.; Component Status: Active; Component Class: Inductors; Author: masi; ComponentLink1URL: https://www.murata.com/products/productdetail?partno=LQW15AN2N5G80%23; ComponentLink1Description: Datasheet; ComponentLink2URL: N.A.; ComponentLink2Description: Supplier link; HelpURL: https://search.murata.co.jp/Ceramy/image/img/P02/JELF243A-0100.pdf; Footprint Doc: 0402; LatestRevisionDate: 2022-08-18; Published: 2022-08-18; Value: 2.5nH; Supplier 1: Digi-Key; Supplier Part Number 1: LQW15AN2N5G80D-ND; Supplier 2: Mouser; Supplier Part Number 2: 81-LQW15AN2N5G80D; Part number IPS: N.A.; Part number Norautron: N.A.; PartId: 100300417
footprint INDC1005X04L_WW
footprint C1608X06L-C1005X04M (Chip Capacitor, 2-Leads, Body 1.6x0.8mm, IPC High Density)
pins: 1, 2

## L0402-2n5-Wirewound-Murata-LQW15AN2N5G80_1
designator Z?, comment 2.5nH
Inductor, 2100mA, ±2%, 30mΩ, Q=30; Part Number: L0402-2n5-Wirewound-Murata-LQW15AN2N5G80; Manufacturer: Murata; Manufacturer Part Number: LQW15AN2N5G80D; Part number NEMS: 100300417; Pad Count: 2; Note: -55°C ~ 125°C; Artikkelnr Noca: N.A.; Component Status: Active; Component Class: Inductors; Author: masi; ComponentLink1URL: https://www.murata.com/products/productdetail?partno=LQW15AN2N5G80%23; ComponentLink1Description: Datasheet; ComponentLink2URL: N.A.; ComponentLink2Description: Supplier link; HelpURL: https://search.murata.co.jp/Ceramy/image/img/P02/JELF243A-0100.pdf; Footprint Doc: 0402; LatestRevisionDate: 2022-08-18; Published: 2022-08-18; Value: 2.5nH; Supplier 1: Digi-Key; Supplier Part Number 1: LQW15AN2N5G80D-ND; Supplier 2: Mouser; Supplier Part Number 2: 81-LQW15AN2N5G80D; Part number IPS: N.A.; Part number Norautron: N.A.; PartId: 100300417
footprint INDC1005X04L_WW
footprint C1608X06L-C1005X04M (Chip Capacitor, 2-Leads, Body 1.6x0.8mm, IPC High Density)
pins: 1, 2

## L0402-2n8-1500mA-47mΩ-LQW15AN2N8G80
designator Z?, comment 2.8nH
Inductor, 1500mA, ±2%, 47mΩ, Q=27; Part Number: L0402-2n8-1500mA-47mΩ-LQW15AN2N8G80; Manufacturer: Murata; Manufacturer Part Number: LQW15AN2N8G80D; Part number NEMS: 100300422; Component Status: Active; Pad Count: 2; Note: -55°C ~ 125°C; Artikkelnr Noca: N.A.; PartId: 100300422; Component Class: Inductors; Author: rubr; ComponentLink1URL: https://eu.mouser.com/datasheet/2/281/1/JELF243A_0100-1380931.pdf; ComponentLink1Description: Datasheet; ComponentLink2URL: https://eu.mouser.com/ProductDetail/Murata-Electronics/LQW15AN2N8G80D?qs=QzBtWTOodeVWFJcVhx7p6g%3D%3D; ComponentLink2Description: Supplier link; HelpURL: https://www.murata.com/en-us/products/productdetail?partno=LQW15AN2N8G80%23; LatestRevisionDate: 2022-12-16; Published: 2022-12-16; Footprint Doc: 0402; Value: 2.8nH; Supplier 1: Mouser; Supplier Part Number 1: 81-LQW15AN2N8G80D; Supplier 2: N.A.; Supplier Part Number 2: N.A.; Part number IPS: N.A.; Part number Norautron: N.A.
footprint INDC1005X04L_WW
footprint C1608X06L-C1005X04M (Chip Capacitor, 2-Leads, Body 1.6x0.8mm, IPC High Density)
pins: 1, 2

## L0402-2n8-1500mA-47mΩ-LQW15AN2N8G80_1
designator Z?, comment 2.8nH
Inductor, 1500mA, ±2%, 47mΩ, Q=27; Part Number: L0402-2n8-1500mA-47mΩ-LQW15AN2N8G80; Manufacturer: Murata; Manufacturer Part Number: LQW15AN2N8G80D; Part number NEMS: 100300422; Component Status: Active; Pad Count: 2; Note: -55°C ~ 125°C; Artikkelnr Noca: N.A.; PartId: 100300422; Component Class: Inductors; Author: rubr; ComponentLink1URL: https://eu.mouser.com/datasheet/2/281/1/JELF243A_0100-1380931.pdf; ComponentLink1Description: Datasheet; ComponentLink2URL: https://eu.mouser.com/ProductDetail/Murata-Electronics/LQW15AN2N8G80D?qs=QzBtWTOodeVWFJcVhx7p6g%3D%3D; ComponentLink2Description: Supplier link; HelpURL: https://www.murata.com/en-us/products/productdetail?partno=LQW15AN2N8G80%23; LatestRevisionDate: 2022-12-16; Published: 2022-12-16; Footprint Doc: 0402; Value: 2.8nH; Supplier 1: Mouser; Supplier Part Number 1: 81-LQW15AN2N8G80D; Supplier 2: N.A.; Supplier Part Number 2: N.A.; Part number IPS: N.A.; Part number Norautron: N.A.
footprint INDC1005X04L_WW
footprint C1608X06L-C1005X04M (Chip Capacitor, 2-Leads, Body 1.6x0.8mm, IPC High Density)
pins: 1, 2

## L0402-3n7-1950mA-30mΩ-LQW15AN3N7G80
designator Z?, comment 3.7nH
Inductor, 1950mA, ±2%, 30mΩ, Q=35; Part Number: L0402-3n7-1950mA-30mΩ-LQW15AN3N7G80; Manufacturer: Murata; Manufacturer Part Number: LQW15AN3N7G80D; Part number NEMS: 100300421; Pad Count: 2; Note: -55°C ~ 125°C; Artikkelnr Noca: N.A.; Component Status: Active; Component Class: Inductors; Author: rubr; ComponentLink1URL: https://eu.mouser.com/datasheet/2/281/1/JELF243A_0100-1380931.pdf; ComponentLink1Description: Datasheet; ComponentLink2URL: https://eu.mouser.com/ProductDetail/Murata-Electronics/LQW15AN3N7G80D?qs=QzBtWTOodeVvBMR8fc6sWg%3D%3D; ComponentLink2Description: Supplier link; HelpURL: https://www.murata.com/en-us/products/productdetail?partno=LQW15AN3N7G80%23; Footprint Doc: 0402; LatestRevisionDate: 2022-12-16; Published: 2022-12-16; Value: 3.7nH; Supplier 1: Mouser; Supplier Part Number 1: 81-LQW15AN3N7G80D; Supplier 2: N.A.; Supplier Part Number 2: N.A.; Part number IPS: N.A.; Part number Norautron: N.A.; PartId: 100300421
footprint INDC1005X04L_WW
footprint C1608X06L-C1005X04M (Chip Capacitor, 2-Leads, Body 1.6x0.8mm, IPC High Density)
pins: 1, 2

## L0402-3n7-1950mA-30mΩ-LQW15AN3N7G80_1
designator Z?, comment 3.7nH
Inductor, 1950mA, ±2%, 30mΩ, Q=35; Part Number: L0402-3n7-1950mA-30mΩ-LQW15AN3N7G80; Manufacturer: Murata; Manufacturer Part Number: LQW15AN3N7G80D; Part number NEMS: 100300421; Pad Count: 2; Note: -55°C ~ 125°C; Artikkelnr Noca: N.A.; Component Status: Active; Component Class: Inductors; Author: rubr; ComponentLink1URL: https://eu.mouser.com/datasheet/2/281/1/JELF243A_0100-1380931.pdf; ComponentLink1Description: Datasheet; ComponentLink2URL: https://eu.mouser.com/ProductDetail/Murata-Electronics/LQW15AN3N7G80D?qs=QzBtWTOodeVvBMR8fc6sWg%3D%3D; ComponentLink2Description: Supplier link; HelpURL: https://www.murata.com/en-us/products/productdetail?partno=LQW15AN3N7G80%23; Footprint Doc: 0402; LatestRevisionDate: 2022-12-16; Published: 2022-12-16; Value: 3.7nH; Supplier 1: Mouser; Supplier Part Number 1: 81-LQW15AN3N7G80D; Supplier 2: N.A.; Supplier Part Number 2: N.A.; Part number IPS: N.A.; Part number Norautron: N.A.; PartId: 100300421
footprint INDC1005X04L_WW
footprint C1608X06L-C1005X04M (Chip Capacitor, 2-Leads, Body 1.6x0.8mm, IPC High Density)
pins: 1, 2

## L0402-3n8-Wirewound-Murata_HQ-LQW15AN3N8G80D
designator Z?, comment 3.8nH
3.8 nH Unshielded Drum Core, Wirewound Inductor 1.95 A 30mOhm Max 0402 (1005 Metric); Part Number: L0402-3n8-Wirewound-Murata_HQ-LQW15AN3N8G80D; Manufacturer: Murata; Manufacturer Part Number: LQW15AN3N8G80D; Part number NEMS: 100300486; Pad Count: 2; Note: -55°C ~ 125°C; Artikkelnr Noca: N.A.; Component Status: Active; Component Class: Inductors; Author: getr; ComponentLink1URL: https://search.murata.co.jp/Ceramy/image/img/P02/JELF243A-0100.pdf; ComponentLink1Description: Datasheet; ComponentLink2URL: https://www.digikey.no/en/products/detail/murata-electronics/LQW15AN3N8G80D/10699152?s=N4IgTCBcDaIDYEcDuBGArAQwHYGYsA4BxfABhAF0BfIA; ComponentLink2Description: Supplier link; HelpURL: https://www.murata.com/en-eu/products/productdetail?partno=LQW15AN3N8G80%23; Footprint Doc: 0402; LatestRevisionDate: 2023-10-30; Published: 2023-10-30; Value: 3.8nH; Supplier 1: Digi-Key; Supplier Part Number 1: 490-LQW15AN3N8G80DTR-ND; Supplier 2: N.A.; Supplier Part Number 2: N.A.; Part number IPS: N.A.; Part number Norautron: N.A.; PartId: 100300486
footprint INDC1005X04L_WW
footprint C1608X06L-C1005X04M (Chip Capacitor, 2-Leads, Body 1.6x0.8mm, IPC High Density)
pins: 1, 2

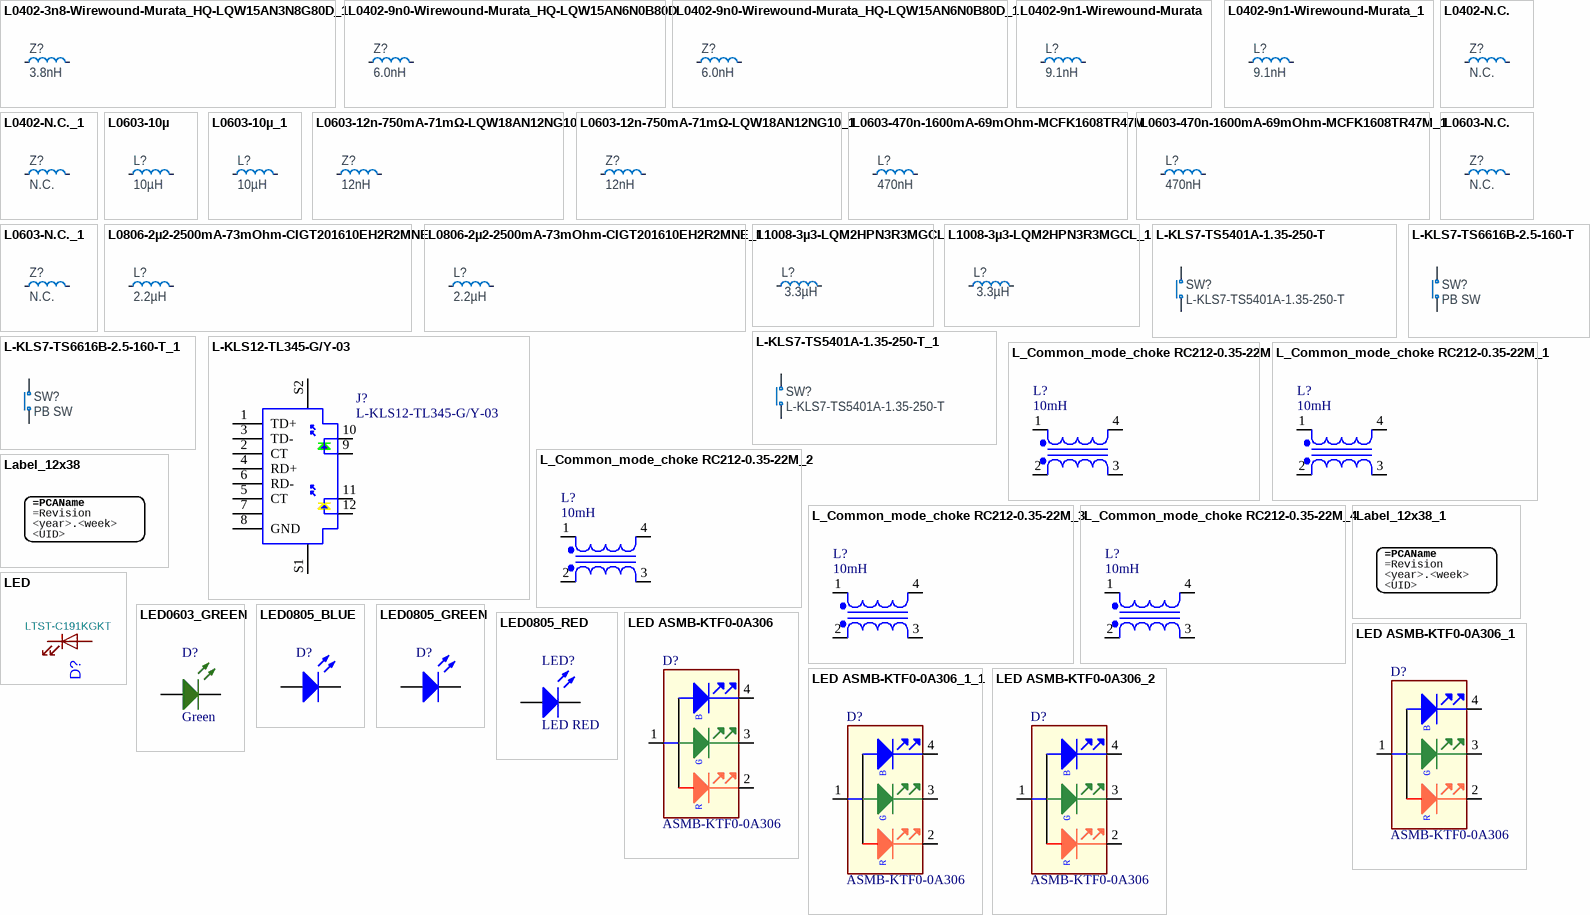
[diagram p32: symbols L0402-3n8-Wirewound-Murata_HQ-LQW15AN3N8G80D_1 to LED ASMB-KTF0-0A306_2]

## L0402-3n8-Wirewound-Murata_HQ-LQW15AN3N8G80D_1
designator Z?, comment 3.8nH
3.8 nH Unshielded Drum Core, Wirewound Inductor 1.95 A 30mOhm Max 0402 (1005 Metric); Part Number: L0402-3n8-Wirewound-Murata_HQ-LQW15AN3N8G80D; Manufacturer: Murata; Manufacturer Part Number: LQW15AN3N8G80D; Part number NEMS: 100300486; Pad Count: 2; Note: -55°C ~ 125°C; Artikkelnr Noca: N.A.; Component Status: Active; Component Class: Inductors; Author: getr; ComponentLink1URL: https://search.murata.co.jp/Ceramy/image/img/P02/JELF243A-0100.pdf; ComponentLink1Description: Datasheet; ComponentLink2URL: https://www.digikey.no/en/products/detail/murata-electronics/LQW15AN3N8G80D/10699152?s=N4IgTCBcDaIDYEcDuBGArAQwHYGYsA4BxfABhAF0BfIA; ComponentLink2Description: Supplier link; HelpURL: https://www.murata.com/en-eu/products/productdetail?partno=LQW15AN3N8G80%23; Footprint Doc: 0402; LatestRevisionDate: 2023-10-30; Published: 2023-10-30; Value: 3.8nH; Supplier 1: Digi-Key; Supplier Part Number 1: 490-LQW15AN3N8G80DTR-ND; Supplier 2: N.A.; Supplier Part Number 2: N.A.; Part number IPS: N.A.; Part number Norautron: N.A.; PartId: 100300486
footprint INDC1005X04L_WW
footprint C1608X06L-C1005X04M (Chip Capacitor, 2-Leads, Body 1.6x0.8mm, IPC High Density)
pins: 1, 2

## L0402-9n0-Wirewound-Murata_HQ-LQW15AN6N0B80D
designator Z?, comment 6.0nH
6 nH Unshielded Drum Core, Wirewound Inductor 1.6 A 56mOhm Max 0402 (1005 Metric); Part Number: L0402-9n0-Wirewound-Murata_HQ-LQW15AN6N0B80D; Manufacturer: Murata; Manufacturer Part Number: LQW15AN6N0B80D; Part number NEMS: 100300487; Pad Count: 2; Note: -55°C ~ 125°C; Artikkelnr Noca: N.A.; Component Status: Active; Component Class: Inductors; Author: getr; ComponentLink1URL: https://search.murata.co.jp/Ceramy/image/img/P02/JELF243A-0100.pdf; ComponentLink1Description: Datasheet; ComponentLink2URL: https://www.digikey.no/en/products/detail/murata-electronics/LQW15AN6N0B80D/4905956?s=N4IgTCBcDaIDYEcDuBGArAQwHYDYsAYAjADnxAF0BfIA; ComponentLink2Description: Supplier link; HelpURL: https://www.murata.com/en-eu/products/productdetail?partno=LQW15AN6N0B80%23; Footprint Doc: 0402; LatestRevisionDate: 2023-10-30; Published: 2023-10-30; Value: 6.0nH; Supplier 1: Digi-Key; Supplier Part Number 1: 490-17896-1-ND; Supplier 2: N.A.; Supplier Part Number 2: N.A.; Part number IPS: N.A.; Part number Norautron: N.A.; PartId: 100300487
footprint INDC1005X04L_WW
footprint C1608X06L-C1005X04M (Chip Capacitor, 2-Leads, Body 1.6x0.8mm, IPC High Density)
pins: 1, 2

## L0402-9n0-Wirewound-Murata_HQ-LQW15AN6N0B80D_1
designator Z?, comment 6.0nH
6 nH Unshielded Drum Core, Wirewound Inductor 1.6 A 56mOhm Max 0402 (1005 Metric); Part Number: L0402-9n0-Wirewound-Murata_HQ-LQW15AN6N0B80D; Manufacturer: Murata; Manufacturer Part Number: LQW15AN6N0B80D; Part number NEMS: 100300487; Pad Count: 2; Note: -55°C ~ 125°C; Artikkelnr Noca: N.A.; Component Status: Active; Component Class: Inductors; Author: getr; ComponentLink1URL: https://search.murata.co.jp/Ceramy/image/img/P02/JELF243A-0100.pdf; ComponentLink1Description: Datasheet; ComponentLink2URL: https://www.digikey.no/en/products/detail/murata-electronics/LQW15AN6N0B80D/4905956?s=N4IgTCBcDaIDYEcDuBGArAQwHYDYsAYAjADnxAF0BfIA; ComponentLink2Description: Supplier link; HelpURL: https://www.murata.com/en-eu/products/productdetail?partno=LQW15AN6N0B80%23; Footprint Doc: 0402; LatestRevisionDate: 2023-10-30; Published: 2023-10-30; Value: 6.0nH; Supplier 1: Digi-Key; Supplier Part Number 1: 490-17896-1-ND; Supplier 2: N.A.; Supplier Part Number 2: N.A.; Part number IPS: N.A.; Part number Norautron: N.A.; PartId: 100300487
footprint INDC1005X04L_WW
footprint C1608X06L-C1005X04M (Chip Capacitor, 2-Leads, Body 1.6x0.8mm, IPC High Density)
pins: 1, 2

## L0402-9n1-Wirewound-Murata
designator L?, comment 9.1nH
Inductor, 540mA, ±2%, 140mΩ, Q=25; Part Number: L0402-9n1-Wirewound-Murata; Manufacturer: Murata; Manufacturer Part Number: LQW15AN9N1G00; Part number IPS: 00000002497; Part number NEMS: 100300357; Note: -55°C ~ 125°C; Artikkelnr Noca: N.A.; Pad Count: 2; Component Status: Active; ComponentLink1URL: https://search.murata.co.jp/Ceramy/image/img/P02/JELF243A-0050.pdf; ComponentLink1Description: Datasheet; ComponentLink2URL: N.A.; ComponentLink2Description: Supplier link; HelpURL: https://psearch.en.murata.com/inductor/product/LQW15AN9N1G00%23.html; Footprint Doc: 0402; LatestRevisionDate: 2019-04-16; Published: 2019-04-16; Value: 9.1nH; Supplier 1: Digi-Key; Supplier Part Number 1: 490-6854-1-ND; Supplier 2: N.A.; Supplier Part Number 2: N.A.; PartId: 100300357; Component Class: Inductors; Author: rsk; Part number Norautron: N.A.
footprint INDC1005X04L_WW
pins: 1, 2

## L0402-9n1-Wirewound-Murata_1
designator L?, comment 9.1nH
Inductor, 540mA, ±2%, 140mΩ, Q=25; Part Number: L0402-9n1-Wirewound-Murata; Manufacturer: Murata; Manufacturer Part Number: LQW15AN9N1G00; Part number IPS: 00000002497; Part number NEMS: 100300357; Note: -55°C ~ 125°C; Artikkelnr Noca: N.A.; Pad Count: 2; Component Status: Active; ComponentLink1URL: https://search.murata.co.jp/Ceramy/image/img/P02/JELF243A-0050.pdf; ComponentLink1Description: Datasheet; ComponentLink2URL: N.A.; ComponentLink2Description: Supplier link; HelpURL: https://psearch.en.murata.com/inductor/product/LQW15AN9N1G00%23.html; Footprint Doc: 0402; LatestRevisionDate: 2019-04-16; Published: 2019-04-16; Value: 9.1nH; Supplier 1: Digi-Key; Supplier Part Number 1: 490-6854-1-ND; Supplier 2: N.A.; Supplier Part Number 2: N.A.; PartId: 100300357; Component Class: Inductors; Author: rsk; Part number Norautron: N.A.
footprint INDC1005X04L_WW
pins: 1, 2

## L0402-N.C.
designator Z?, comment N.C.
Not mounted; Part Number: L0402-N.C.; Manufacturer: N.A.; Part number NEMS: 100300037; Pad Count: 2; Assembly: Not mounted; Component Status: Active; Component Class: Inductors; Author: rsk; Manufacturer Part Number: N.A.; ComponentLink1URL: N.A.; ComponentLink1Description: Datasheet; ComponentLink2URL: N.A.; ComponentLink2Description: Supplier link; HelpURL: N.A.; Footprint Doc: 0402; LatestRevisionDate: 2016-11-24; Published: 2016-11-24; Value: N.C.; Note: N.A.; Supplier 1: N.A.; Supplier Part Number 1: N.A.; Supplier 2: N.A.; Supplier Part Number 2: N.A.; Artikkelnr Noca: N.A.; Part number IPS: N.A.; Part number Norautron: N.A.; PartId: 100300037
footprint INDC1005X04L_NC
footprint C1608X06L-C1005X04M (Chip Capacitor, 2-Leads, Body 1.6x0.8mm, IPC High Density)
pins: 1, 2

## L0402-N.C._1
designator Z?, comment N.C.
Not mounted; Part Number: L0402-N.C.; Manufacturer: N.A.; Part number NEMS: 100300037; Pad Count: 2; Assembly: Not mounted; Component Status: Active; Component Class: Inductors; Author: rsk; Manufacturer Part Number: N.A.; ComponentLink1URL: N.A.; ComponentLink1Description: Datasheet; ComponentLink2URL: N.A.; ComponentLink2Description: Supplier link; HelpURL: N.A.; Footprint Doc: 0402; LatestRevisionDate: 2016-11-24; Published: 2016-11-24; Value: N.C.; Note: N.A.; Supplier 1: N.A.; Supplier Part Number 1: N.A.; Supplier 2: N.A.; Supplier Part Number 2: N.A.; Artikkelnr Noca: N.A.; Part number IPS: N.A.; Part number Norautron: N.A.; PartId: 100300037
footprint INDC1005X04L_NC
footprint C1608X06L-C1005X04M (Chip Capacitor, 2-Leads, Body 1.6x0.8mm, IPC High Density)
pins: 1, 2

## L0603-10µ
designator L?, comment 10µH
Inductor, 80mA, ±10%; Part Number: L0603-10µ; Manufacturer: Taiyo Yuden; Manufacturer Part Number: LBMF1608T100K; Part number IPS: 00000007794; Part number Norautron: N.A.; Part number NEMS: 100300078; Pad Count: 2; Artikkelnr Noca: 33029314; Note: LBMF1608T100K 10µH 80mA 0603; Component Status: Active; Value: 10µH; Footprint Doc: 0603; Component Class: Inductors; Author: rsk; ComponentLink1Description: Datasheet; ComponentLink1URL: N.A.; ComponentLink2Description: Supplier link; ComponentLink2URL: N.A.; HelpURL: http://www.yuden.co.jp/ut/product/pdf/elb2_e.pdf; LatestRevisionDate: 2012-09-19; PartId: 100300078; Published: 2010-02-24; Supplier 1: Digi-Key; Supplier 2: Farnell; Supplier Part Number 1: 587-1714-1-ND; Supplier Part Number 2: 178-6105
footprint INDC1608X06L
pins: 1, 2

## L0603-10µ_1
designator L?, comment 10µH
Inductor, 80mA, ±10%; Part Number: L0603-10µ; Manufacturer: Taiyo Yuden; Manufacturer Part Number: LBMF1608T100K; Part number IPS: 00000007794; Part number Norautron: N.A.; Part number NEMS: 100300078; Pad Count: 2; Artikkelnr Noca: 33029314; Note: LBMF1608T100K 10µH 80mA 0603; Component Status: Active; Value: 10µH; Footprint Doc: 0603; Component Class: Inductors; Author: rsk; ComponentLink1Description: Datasheet; ComponentLink1URL: N.A.; ComponentLink2Description: Supplier link; ComponentLink2URL: N.A.; HelpURL: http://www.yuden.co.jp/ut/product/pdf/elb2_e.pdf; LatestRevisionDate: 2012-09-19; PartId: 100300078; Published: 2010-02-24; Supplier 1: Digi-Key; Supplier 2: Farnell; Supplier Part Number 1: 587-1714-1-ND; Supplier Part Number 2: 178-6105
footprint INDC1608X06L
pins: 1, 2

## L0603-12n-750mA-71mΩ-LQW18AN12NG10
designator Z?, comment 12nH
Inductor, 750mA, ±2%, 71mΩ, Q=38; Part Number: L0603-12n-750mA-71mΩ-LQW18AN12NG10; Manufacturer: Murata; Manufacturer Part Number: LQW18AN12NG10; Part number NEMS: 100300414; Pad Count: 2; Note: -55°C ~ 125°C; Artikkelnr Noca: N.A.; Component Status: Active; Component Class: Inductors; Author: rubr; ComponentLink1URL: https://search.murata.co.jp/Ceramy/image/img/P02/JELF243A-0026.pdf; ComponentLink1Description: Datasheet; ComponentLink2URL: N.A.; ComponentLink2Description: Supplier link; HelpURL: https://psearch.en.murata.com/inductor/product/LQW18AN12NG10%23.html; Footprint Doc: 0603; LatestRevisionDate: 2022-02-17; Published: 2022-02-17; Value: 12nH; Supplier 1: Digi-Key; Supplier Part Number 1: 490-6862-1-ND; Supplier 2: Mouser; Supplier Part Number 2: 81-LQW18AN12NG10D; Part number IPS: N.A.; Part number Norautron: N.A.; PartId: 100300414
footprint INDC1608X06L_WW
footprint C1608X06L-C1005X04M (Chip Capacitor, 2-Leads, Body 1.6x0.8mm, IPC High Density)
pins: 1, 2

## L0603-12n-750mA-71mΩ-LQW18AN12NG10_1
designator Z?, comment 12nH
Inductor, 750mA, ±2%, 71mΩ, Q=38; Part Number: L0603-12n-750mA-71mΩ-LQW18AN12NG10; Manufacturer: Murata; Manufacturer Part Number: LQW18AN12NG10; Part number NEMS: 100300414; Pad Count: 2; Note: -55°C ~ 125°C; Artikkelnr Noca: N.A.; Component Status: Active; Component Class: Inductors; Author: rubr; ComponentLink1URL: https://search.murata.co.jp/Ceramy/image/img/P02/JELF243A-0026.pdf; ComponentLink1Description: Datasheet; ComponentLink2URL: N.A.; ComponentLink2Description: Supplier link; HelpURL: https://psearch.en.murata.com/inductor/product/LQW18AN12NG10%23.html; Footprint Doc: 0603; LatestRevisionDate: 2022-02-17; Published: 2022-02-17; Value: 12nH; Supplier 1: Digi-Key; Supplier Part Number 1: 490-6862-1-ND; Supplier 2: Mouser; Supplier Part Number 2: 81-LQW18AN12NG10D; Part number IPS: N.A.; Part number Norautron: N.A.; PartId: 100300414
footprint INDC1608X06L_WW
footprint C1608X06L-C1005X04M (Chip Capacitor, 2-Leads, Body 1.6x0.8mm, IPC High Density)
pins: 1, 2